# EAGLE library part USB3065-XX-00-A_REVE (library USB3065-XX-00-A_REVE)
Micro USB Receptacle, Type B, 5 Pin, SMT, Horizontal, Bottom Mount (Standart), Optional Plastic Locating Peg
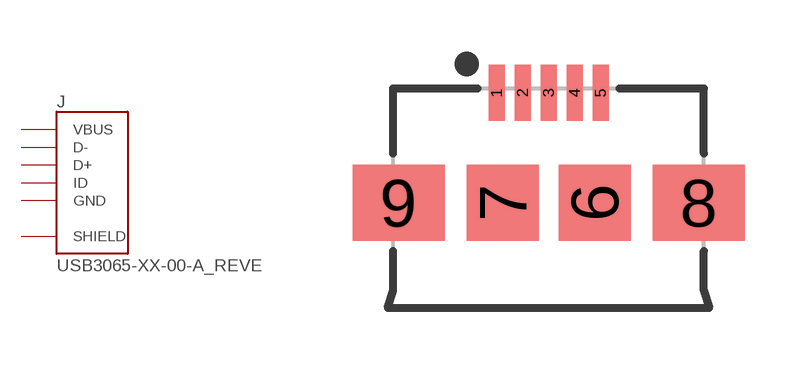
[diagram p0: symbol with the pads of GCT_USB3065-XX-00-A_REVE; footprint GCT_USB3065-XX-00-A_REVE]

Designator prefix J

## USB3065-XX-00-A_REVE (Availability: Unavailable; Description: USB3065 Series 5 Pin, SMT, Horizontal, Bottom Mount, Micro USB Receptacle; MF: Global Connector Technology; MP: USB3065-30-00-A; Package: None; Price: None)  [GCT_USB3065-XX-00-A_REVE]
1  VBUS  pwr
2  D-
3  D+
4  ID
5  GND  pwr
6  SHIELD  pwr
7  SHIELD  pwr
8  SHIELD  pwr
9  SHIELD  pwr

## Footprint GCT_USB3065-XX-00-A_REVE (pad centres in mm)
smd 0.4 x 1.4: 1 -1.3,0.5; 2 -0.65,0.5; 3 0,0.5; 4 0.65,0.5; 5 1.3,0.5
smd 1.8 x 1.9: 6 1.15,-2.25; 7 -1.15,-2.25
smd 2.3 x 1.9: 8 3.75,-2.25; 9 -3.75,-2.25